# Altium schematic symbol library SN74LV4053APWR.Schlib: 1 symbol
Pins are listed as number, name and electrical type; pins without a type are passive.

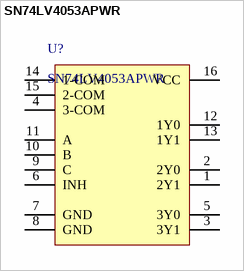
[diagram p0: symbol SN74LV4053APWR]

## SN74LV4053APWR
designator U?
3 Circuit IC Switch 2:1 75Ohm 16-TSSOP
pins: 1 2Y1, 2 2Y0, 3 3Y1, 4 3-COM, 5 3Y0, 6 INH, 7 GND, 8 GND, 9 C, 10 B, 11 A, 12 1Y0, 13 1Y1, 14 1-COM, 15 2-COM, 16 VCC